# EAGLE library part BOARD2BOARD (library crawler2)
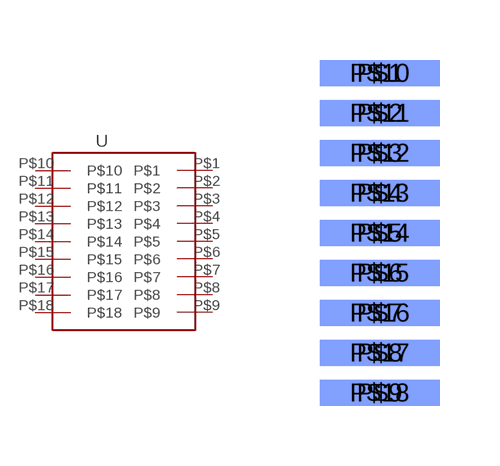
[diagram p0: symbol with the pads of BOARD2BOARD; footprint BOARD2BOARD]

Designator prefix -

## BOARD2BOARD  [BOARD2BOARD]
P$1  P$1
P$2  P$2
P$3  P$3
P$4  P$4
P$5  P$5
P$6  P$6
P$7  P$7
P$8  P$8
P$9  P$9
P$10  P$10
P$11  P$11
P$12  P$12
P$13  P$13
P$14  P$14
P$15  P$15
P$16  P$16
P$17  P$17
P$18  P$18

## Footprint BOARD2BOARD (pad centres in mm)
smd 2.543 x 0.65: P$1 0,4
smd 3 x 0.65: P$2 0,3; P$3 0,2; P$4 0,1; P$5 0,0; P$6 0,-1; P$7 0,-2; P$8 0,-3; P$9 0,-4
smd 3 x 0.65 bottom: P$10 0,4; P$11 0,3; P$12 0,2; P$13 0,1; P$14 0,0; P$15 0,-1; P$16 0,-2; P$17 0,-3; P$18 0,-4